# EAGLE library part CON-ISP-AVR-6 (library mylib)
ISP Pinheader : for AVR (AVRISP Mk II)
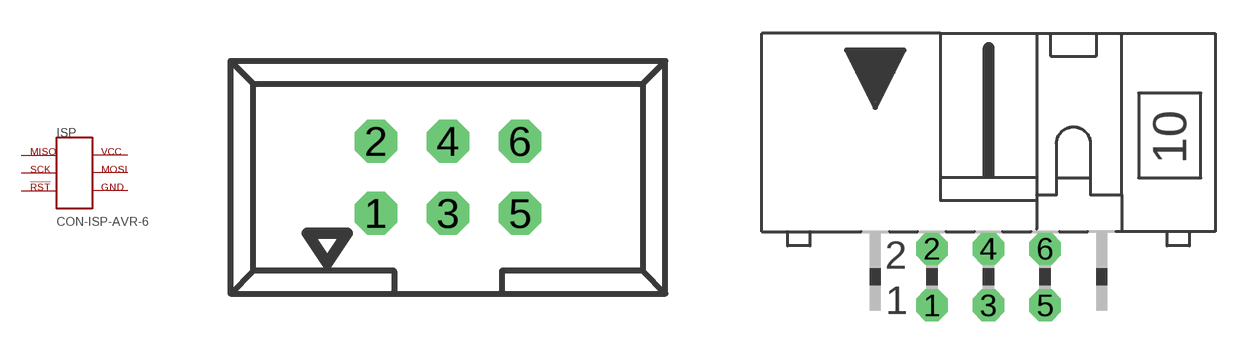
[diagram p49: symbol with the pads of CON-MIL-6; footprints CON-MIL-6, CON-MIL-6ISP]

Designator prefix ISP

## CON-ISP-AVR-6  [CON-MIL-6]
1  MISO
2  VCC
3  SCK
4  MOSI
5  RESET
6  GND

## CON-ISP-AVR-6-L  [CON-MIL-6ISP]
Pads as for CON-MIL-6

## Footprint CON-MIL-6 (pad centres in mm)
drill 1 octagon: 1 -2.54,-1.27; 2 -2.54,1.27; 3 0,-1.27; 4 0,1.27; 5 2.54,-1.27; 6 2.54,1.27

## Footprint CON-MIL-6ISP (pad centres in mm)
drill 0.914 octagon: 1 -2.54,-1.27; 2 -2.54,1.27; 3 0,-1.27; 4 0,1.27; 5 2.54,-1.27; 6 2.54,1.27